# EAGLE library part PINHD-1X19 (library untitled)
PIN HEADER
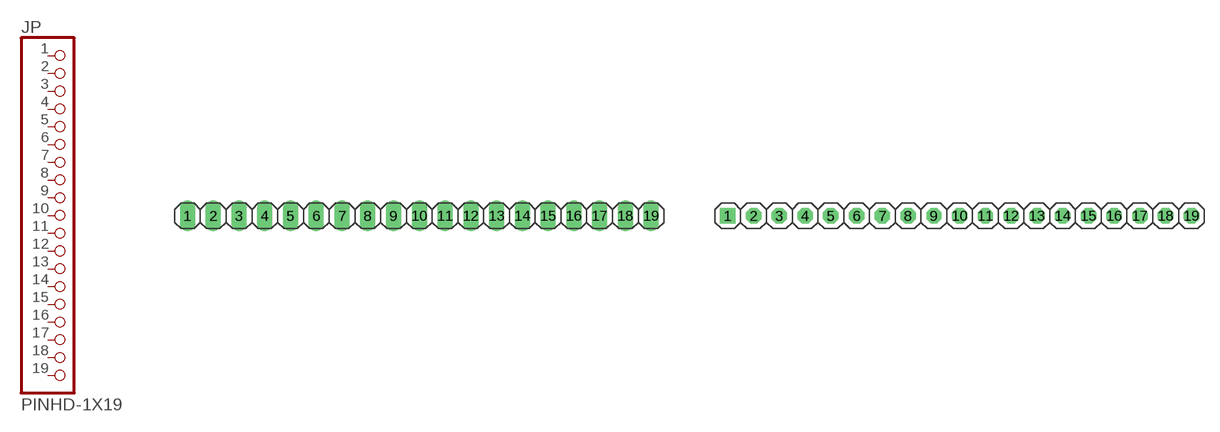
[diagram p13: symbol with the pads of 1X19; footprints 1X19, 1X19-S]

Designator prefix JP

## PINHD-1X19_2.54  [1X19]
1  1  pas
2  2  pas
3  3  pas
4  4  pas
5  5  pas
6  6  pas
7  7  pas
8  8  pas
9  9  pas
10  10  pas
11  11  pas
12  12  pas
13  13  pas
14  14  pas
15  15  pas
16  16  pas
17  17  pas
18  18  pas
19  19  pas

## PINHD-1X19_2.54-S  [1X19-S]
Pads as for 1X19

## PINHD-1X19_2.54-90°  [1X19/90]
Pads as for 1X19

## PINHD-1X19_2.54-90°-S  [1X19/90-S]
Pads as for 1X19

## PINHD-1X19_2.00  [1X19M]
Pads as for 1X19

## PINHD-1X19_2.54-SMD  [1X19SMD]
Pads as for 1X19

## PINHD-1X19  [1X19SMD/90]
Pads as for 1X19

## Footprint 1X19 (pad centres in mm)
PIN HEADER - 2.54
drill 1.016 long: 1 -22.86,0; 2 -20.32,0; 3 -17.78,0; 4 -15.24,0; 5 -12.7,0; 6 -10.16,0; 7 -7.62,0; 8 -5.08,0; 9 -2.54,0; 10 0,0; 11 2.54,0; 12 5.08,0; 13 7.62,0; 14 10.16,0; 15 12.7,0; 16 15.24,0; 17 17.78,0; 18 20.32,0; 19 22.86,0

## Footprint 1X19-S (pad centres in mm)
PIN HEADER - 2.54
drill 1.016 square: 1 -22.86,0
drill 1.016 octagon: 2 -20.32,0; 3 -17.78,0; 4 -15.24,0; 5 -12.7,0; 6 -10.16,0; 7 -7.62,0; 8 -5.08,0; 9 -2.54,0; 10 0,0; 11 2.54,0; 12 5.08,0; 13 7.62,0; 14 10.16,0; 15 12.7,0; 16 15.24,0; 17 17.78,0; 18 20.32,0; 19 22.86,0

## Footprint 1X19/90 (pad centres in mm)
PIN HEADER - 2.54 90°
drill 1.016 long: 1 -22.86,-3.81; 2 -20.32,-3.81; 3 -17.78,-3.81; 4 -15.24,-3.81; 5 -12.7,-3.81; 6 -10.16,-3.81; 7 -7.62,-3.81; 8 -5.08,-3.81; 9 -2.54,-3.81; 10 0,-3.81; 11 2.54,-3.81; 12 5.08,-3.81; 13 7.62,-3.81; 14 10.16,-3.81; 15 12.7,-3.81; 16 15.24,-3.81; 17 17.78,-3.81; 18 20.32,-3.81; 19 22.86,-3.81

## Footprint 1X19/90-S (pad centres in mm)
PIN HEADER - 2.54 90°
drill 1.016 square: 1 -22.86,-3.81
drill 1.016 octagon: 2 -20.32,-3.81; 3 -17.78,-3.81; 4 -15.24,-3.81; 5 -12.7,-3.81; 6 -10.16,-3.81; 7 -7.62,-3.81; 8 -5.08,-3.81; 9 -2.54,-3.81; 10 0,-3.81; 11 2.54,-3.81; 12 5.08,-3.81; 13 7.62,-3.81; 14 10.16,-3.81; 15 12.7,-3.81; 16 15.24,-3.81; 17 17.78,-3.81; 18 20.32,-3.81; 19 22.86,-3.81

## Footprint 1X19M (pad centres in mm)
PIN HEADER - 2
drill 0.914 square: 1 -18,0
drill 0.914 round: 2 -16,0; 3 -14,0; 4 -12,0; 5 -10,0; 6 -8,0; 7 -6,0; 8 -4,0; 9 -2,0; 10 0,0; 11 2,0; 12 4,0; 13 6,0; 14 8,0; 15 10,0; 16 12,0; 17 14,0; 18 16,0; 19 18,0

## Footprint 1X19SMD (pad centres in mm)
PIN HEADER - 2.54 SMD
smd 1.016 x 3.302: 1 -1.27,1.27; 2 1.27,-1.27; 3 3.81,1.27; 4 6.35,-1.27; 5 8.89,1.27; 6 11.43,-1.27; 7 13.97,1.27; 8 16.51,-1.27; 9 19.05,1.27; 10 21.59,-1.27; 11 24.13,1.27; 12 26.67,-1.27; 13 29.21,1.27; 14 31.75,-1.27; 15 34.29,1.27; 16 36.83,-1.27; 17 39.37,1.27; 18 41.91,-1.27; 19 44.45,1.27

## Footprint 1X19SMD/90 (pad centres in mm)
PIN HEADER - 2.54 90°
smd 1.016 x 1.778: 1 -1.27,-5.08; 2 1.27,-5.08; 3 3.81,-5.08; 4 6.35,-5.08; 5 8.89,-5.08; 6 11.43,-5.08; 7 13.97,-5.08; 8 16.51,-5.08; 9 19.05,-5.08; 10 21.59,-5.08; 11 24.13,-5.08; 12 26.67,-5.08; 13 29.21,-5.08; 14 31.75,-5.08; 15 34.29,-5.08; 16 36.83,-5.08; 17 39.37,-5.08; 18 41.91,-5.08; 19 44.45,-5.08